# Altium footprint library CAPPM3528X210N.PcbLib: 1 footprints
Each footprint in its own frame and in the unit in brackets; x right, y up, seen from the top. Pads: shape width x height; smd on the part's side, far side on the other; paste and mask are expansions set on the pad; w line width, h text height; cw(c..) or ccw(c..) is an arc to the next point about the centre after c.
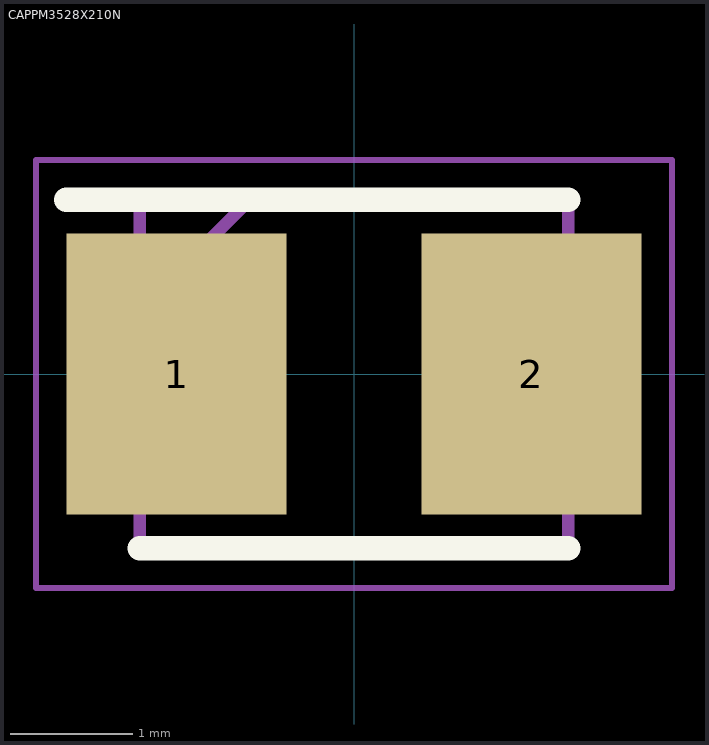
[diagram p0: the footprint, top view; thin cyan lines are the x and y axes]

## CAPPM3528X210N [mm]
pads (2):
  rect 1.8x2.3 smd: 1(-1.45,0) 2(1.45,0)
Top Overlay:
  lines w0.2: -2.35,1.425 1.75,1.425 ; -1.75,-1.425 1.75,-1.425
Mechanical 15:
  lines w0.1: -1.75,0.525 -0.85,1.425 ; -1.75,-1.425 1.75,-1.425 1.75,1.425 -1.75,1.425 -1.75,-1.425
Mechanical 20:
  lines w0.05: -2.6,-1.75 2.6,-1.75 2.6,1.75 -2.6,1.75 -2.6,-1.75